# Altium integrated library BAS5202.IntLib: 1 symbol
Pins are listed as number, name and electrical type; pins without a type are passive.

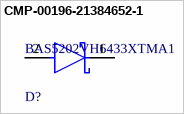
[diagram p0: symbol CMP-00196-21384652-1]

## CMP-00196-21384652-1
designator D?, comment BAS5202VH6433XTMA1
BAS5202VH6433XTMA1 Rectifier Diode, Schottky, 1 Phase, 1 Element, 0.5A, 45V V(RRM), Silicon; NexarPartId: 21384652; Peak Reverse Current: 10µA; Element Configuration: Single; Capacitance: 5pF; Forward Current: 750mA; Max Forward Surge Current (Ifsm): 2A; Max Junction Temperature (Tj): 150°C; RoHS: Compliant; Max Repetitive Reverse Voltage (Vrrm): 45V; Reverse Voltage: 45V; Height: 590µm; Number of Pins: 2; Max Reverse Voltage (DC): 45V; Mount: Surface Mount; Packaging: Tape & Reel (TR); Min Operating Temperature: -65°C; Average Rectified Current: 750mA; Max Operating Temperature: 150°C
footprint FP-PG-SC79-2-MFG
pins: 1 C, 2 A